# Altium footprint library IC_SSR_NO_SMD.PcbLib: 1 footprints
Each footprint in its own frame and in the unit in brackets; x right, y up, seen from the top. Pads: shape width x height; smd on the part's side, far side on the other; paste and mask are expansions set on the pad; w line width, h text height; cw(c..) or ccw(c..) is an arc to the next point about the centre after c.
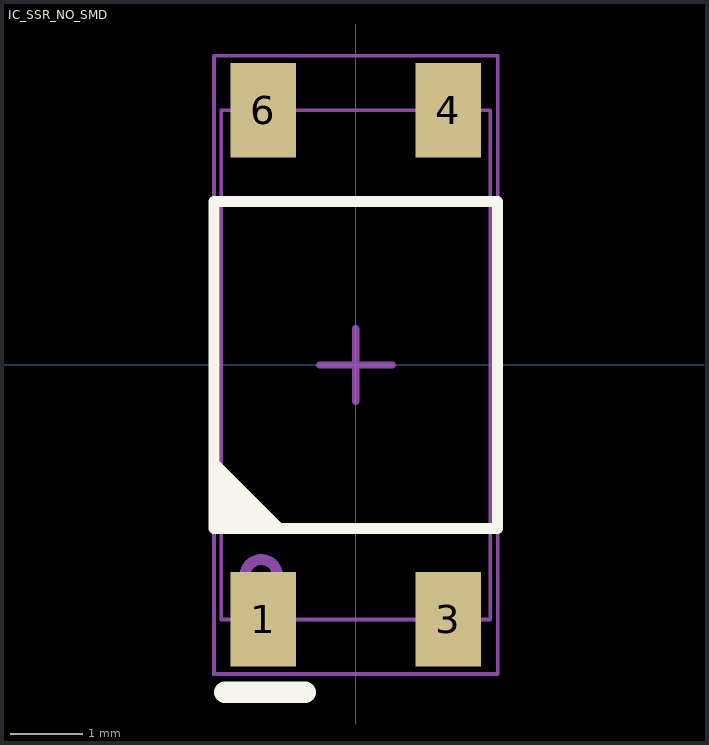
[diagram p0: the footprint, top view; thin cyan lines are the x and y axes]

## IC_SSR_NO_SMD [mm] "Solid State SPST-NO (1 Form A) 6-SMD, Gull Wing"
pads (4):
  rect 0.9x1.3 smd: 1(-1.27,-3.5) 3(1.27,-3.5) 4(1.27,3.5) 6(-1.27,3.5)
Top Overlay:
  region: -2,-2.3 -2,-1.2 -0.9,-2.3
  lines w0.15: -1.948,-2.248 1.948,-2.248 1.948,2.248 -1.948,2.248 -1.948,-2.248
  lines w0.3: -1.8,-4.5 -0.7,-4.5
Top Assembly:
  circle w0.15: c-1.3,-2.9 r0.224
  lines w0.05: -1.85,-3.5 1.85,-3.5 1.85,3.5 -1.85,3.5 -1.85,-3.5
  text ".designator" at -2.499,-0.167 h0.5
Top Courtyard:
  lines w0.05: -1.95,-4.25 1.95,-4.25 1.95,4.25 -1.95,4.25 -1.95,-4.25
  lines w0.1: -0.5,0 0.5,0 ; 0,-0.5 0,0.5
3D body "IC_SSR_4SOP_SMD.step": height 2.2, standoff 0, extent -1.85,-3.5 1.85,3.5